# EAGLE library part FPC-49WAY (library pimoroni-fpc)
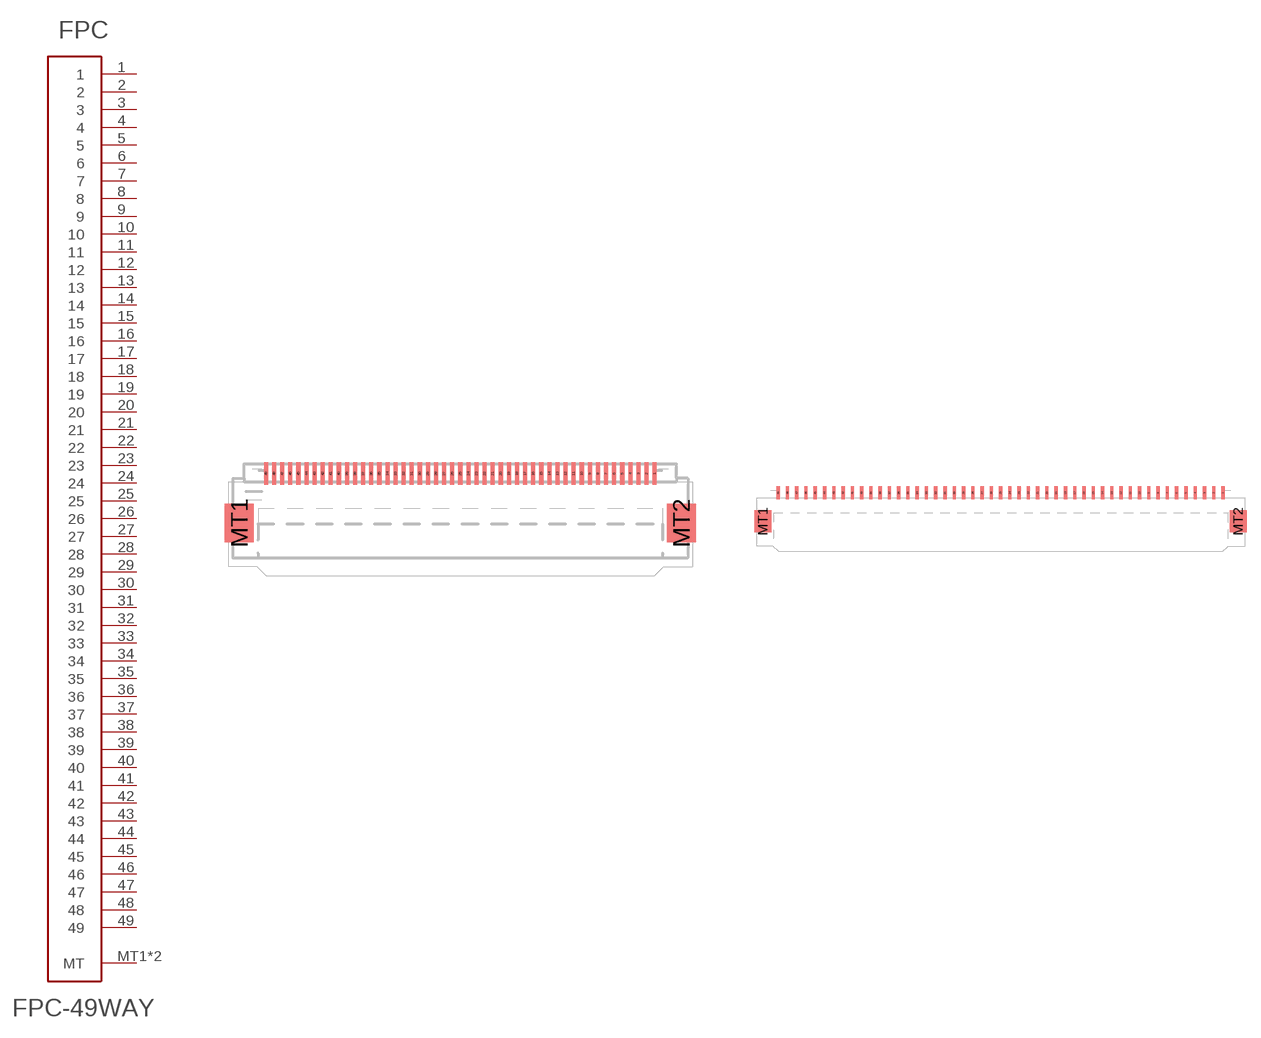
[diagram p44: symbol with the pads of FPC-0.5MM-49WAY; footprints FPC-0.5MM-49WAY, FPC-1.0MM-49WAY]

Designator prefix FPC

## FPC-49WAY0.5  [FPC-0.5MM-49WAY]
1  1
2  2
3  3
4  4
5  5
6  6
7  7
8  8
9  9
10  10
11  11
12  12
13  13
14  14
15  15
16  16
17  17
18  18
19  19
20  20
21  21
22  22
23  23
24  24
25  25
26  26
27  27
28  28
29  29
30  30
31  31
32  32
33  33
34  34
35  35
36  36
37  37
38  38
39  39
40  40
41  41
42  42
43  43
44  44
45  45
46  46
47  47
48  48
49  49
MT1  MT
MT2  MT

## FPC-49WAY1.0  [FPC-1.0MM-49WAY]
Pads as for FPC-0.5MM-49WAY

## Footprint FPC-0.5MM-49WAY (pad centres in mm)
smd 0.25 x 1.4: 1 12,0.7; 2 11.5,0.7; 3 11,0.7; 4 10.5,0.7; 5 10,0.7; 6 9.5,0.7; 7 9,0.7; 8 8.5,0.7; 9 8,0.7; 10 7.5,0.7; 11 7,0.7; 12 6.5,0.7; 13 6,0.7; 14 5.5,0.7; 15 5,0.7; 16 4.5,0.7; 17 4,0.7; 18 3.5,0.7; 19 3,0.7; 20 2.5,0.7; 21 2,0.7; 22 1.5,0.7; 23 1,0.7; 24 0.5,0.7; 25 0,0.7; 26 -0.5,0.7; 27 -1,0.7; 28 -1.5,0.7; 29 -2,0.7; 30 -2.5,0.7; 31 -3,0.7; 32 -3.5,0.7; 33 -4,0.7; 34 -4.5,0.7; 35 -5,0.7; 36 -5.5,0.7; 37 -6,0.7; 38 -6.5,0.7; 39 -7,0.7; 40 -7.5,0.7; 41 -8,0.7; 42 -8.5,0.7; 43 -9,0.7; 44 -9.5,0.7; 45 -10,0.7; 46 -10.5,0.7; 47 -11,0.7; 48 -11.5,0.7; 49 -12,0.7
smd 1.8 x 2.4: MT1 -13.65,-2.35; MT2 13.65,-2.35

## Footprint FPC-1.0MM-49WAY (pad centres in mm)
smd 0.35 x 1.4: 1 24,0.7; 2 23,0.7; 3 22,0.7; 4 21,0.7; 5 20,0.7; 6 19,0.7; 7 18,0.7; 8 17,0.7; 9 16,0.7; 10 15,0.7; 11 14,0.7; 12 13,0.7; 13 12,0.7; 14 11,0.7; 15 10,0.7; 16 9,0.7; 17 8,0.7; 18 7,0.7; 19 6,0.7; 20 5,0.7; 21 4,0.7; 22 3,0.7; 23 2,0.7; 24 1,0.7; 25 0,0.7; 26 -1,0.7; 27 -2,0.7; 28 -3,0.7; 29 -4,0.7; 30 -5,0.7; 31 -6,0.7; 32 -7,0.7; 33 -8,0.7; 34 -9,0.7; 35 -10,0.7; 36 -11,0.7; 37 -12,0.7; 38 -13,0.7; 39 -14,0.7; 40 -15,0.7; 41 -16,0.7; 42 -17,0.7; 43 -18,0.7; 44 -19,0.7; 45 -20,0.7; 46 -21,0.7; 47 -22,0.7; 48 -23,0.7; 49 -24,0.7
smd 1.8 x 2.4: MT1 -25.65,-2.35; MT2 25.65,-2.35